# Altium footprint library CHIP.PcbLib: 12 footprints
Each footprint in its own frame and in the unit in brackets; x right, y up, seen from the top. Pads: shape width x height; smd on the part's side, far side on the other; paste and mask are expansions set on the pad; w line width, h text height; cw(c..) or ccw(c..) is an arc to the next point about the centre after c.
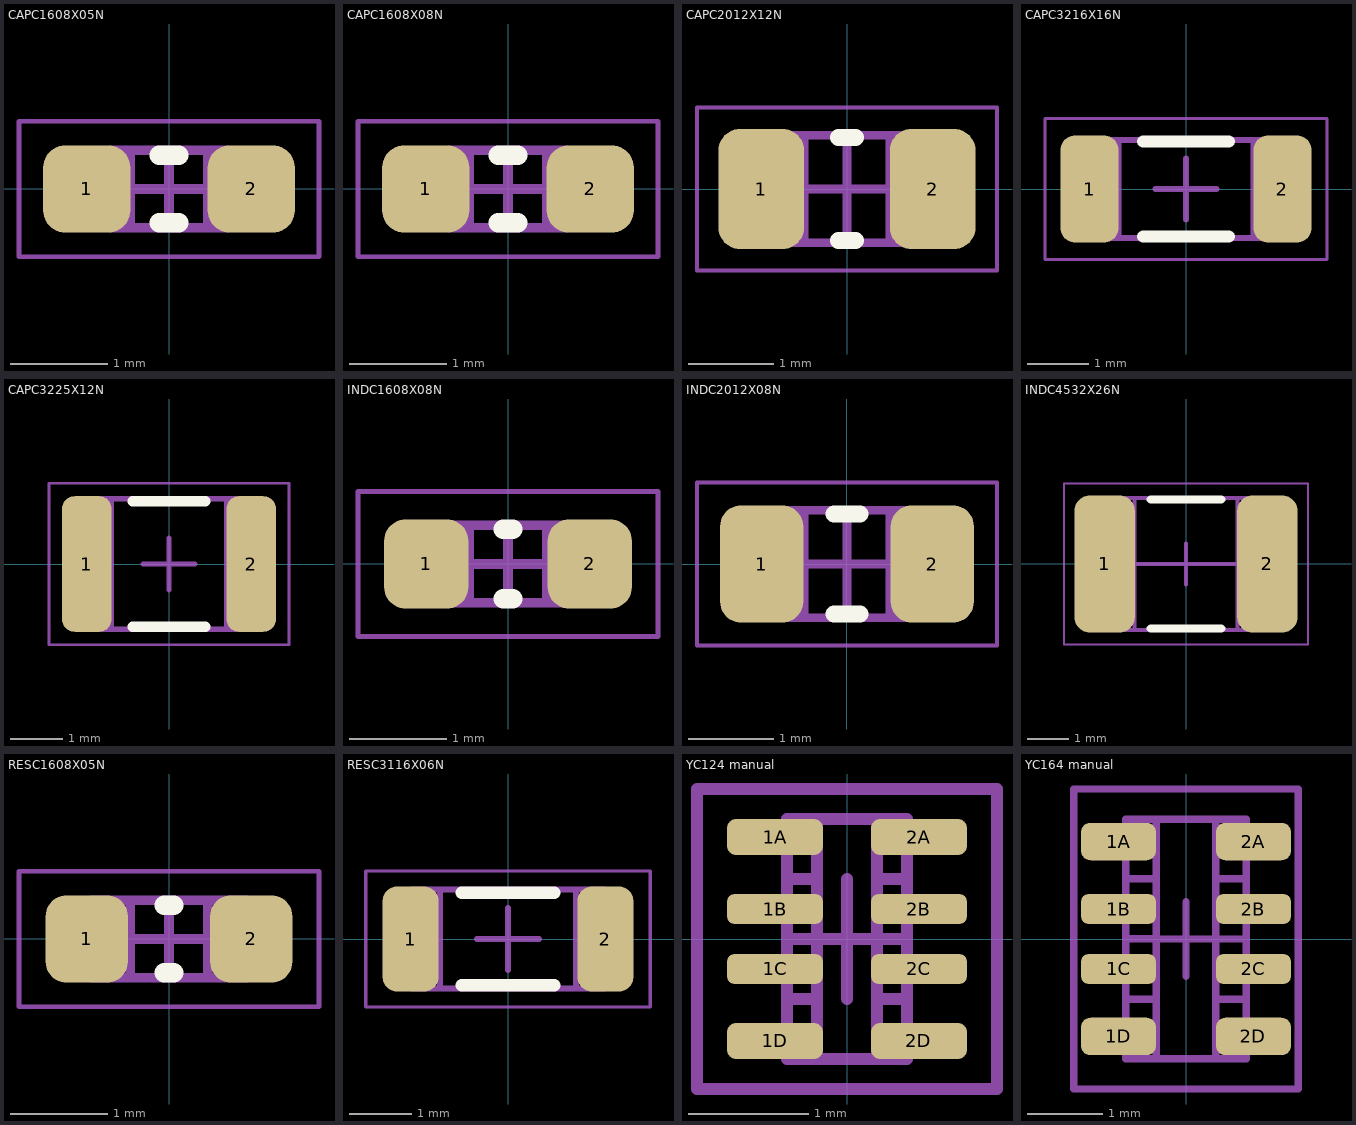
[diagram p0: the footprints below, top view; thin cyan lines are the x and y axes]

## CAPC1608X05N [mm] "Chip Capacitor, 2-Leads, Body 1.60x0.80mm, Thickness 0.8mm, IPC Medium Density"
height 0.8
pads (2):
  rrect50% 0.9x0.9 smd: 1(-0.85,0) 2(0.85,0)
Top Overlay:
  lines w0.2: -0.1,-0.35 0.1,-0.35 ; -0.1,0.35 0.1,0.35
Mechanical 4:
  text ".Designator" at -1.9,-0.2 h1
Mechanical 13:
  lines w0.1: -0.4,-0.4 -0.4,0.4 ; 0.4,-0.4 0.4,0.4 ; -0.8,-0.2 -0.8,0.2 -0.6,0.4 0.6,0.4 0.8,0.2 0.8,-0.2 0.6,-0.4 -0.6,-0.4 -0.8,-0.2
Mechanical 15:
  lines w0.05: -1.55,-0.7 -1.55,0.7 1.55,0.7 1.55,-0.7 -1.55,-0.7
  lines w0.1: -0.4,0 0.4,0 ; 0,-0.4 0,0.4
3D body: height 0.5, standoff 0, extent -0.4,-0.4 0.4,0.4
3D body: height 0.5, standoff 0, extent -0.8,-0.4 -0.4,0.4
3D body: height 0.5, standoff 0, extent 0.4,-0.4 0.8,0.4

## CAPC1608X08N [mm] "Chip Capacitor, 2-Leads, Body 1.60x0.80mm, Thickness 0.8mm, IPC Medium Density"
height 0.8
pads (2):
  rrect50% 0.9x0.9 smd: 1(-0.85,0) 2(0.85,0)
Top Overlay:
  lines w0.2: -0.1,-0.35 0.1,-0.35 ; -0.1,0.35 0.1,0.35
Mechanical 4:
  text ".Designator" at -2.2,-0.2 h1
Mechanical 13:
  lines w0.1: -0.4,-0.4 -0.4,0.4 ; 0.4,-0.4 0.4,0.4 ; -0.8,-0.2 -0.6,-0.4 0.6,-0.4 0.8,-0.2 0.8,0.2 0.6,0.4 -0.6,0.4 -0.8,0.2 -0.8,-0.2
Mechanical 15:
  lines w0.05: -1.55,-0.7 1.55,-0.7 1.55,0.7 -1.55,0.7 -1.55,-0.7
  lines w0.1: -0.4,0 0.4,0 ; 0,-0.4 0,0.4
3D body: height 0.8, standoff 0, extent 0.4,-0.4 0.8,0.4
3D body: height 0.8, standoff 0, extent -0.8,-0.4 -0.4,0.4
3D body: height 0.8, standoff 0, extent -0.4,-0.4 0.4,0.4

## CAPC2012X12N [mm] "Chip Capacitor, 2-Leads, Body 2.00x1.25mm, Thickness 1.25mm, IPC Medium Density"
height 1.25
pads (2):
  rrect50% 1x1.4 smd: 1(-1,0) 2(1,0)
Top Overlay:
  lines w0.2: -0.1,-0.6 0.1,-0.6 ; -0.1,0.6 0.1,0.6
Mechanical 4:
  text ".Designator" at -2.2,-0.2 h1
Mechanical 13:
  lines w0.1: -0.5,-0.625 -0.5,0.625 ; 0.5,-0.625 0.5,0.625 ; -1,-0.4 -0.775,-0.625 0.75,-0.625 1,-0.375 1,0.375 0.75,0.625 -0.75,0.625 -1,0.375 -1,-0.4
Mechanical 15:
  lines w0.05: -1.75,-0.95 -1.75,0.95 1.75,0.95 1.75,-0.95 -1.75,-0.95
  lines w0.1: -0.5,0 0.5,0 ; 0,-0.5 0,0.5
3D body: height 1.25, standoff 0, extent -0.5,-0.625 0.5,0.625
3D body: height 1.25, standoff 0, extent -1,-0.625 -0.5,0.625
3D body: height 1.25, standoff 0, extent 0.5,-0.625 1,0.625

## CAPC3216X16N [mm] "Chip Capacitor, 2-Leads, Body 3.20x1.60x1.6mm, IPC Medium Density"
height 1.6
pads (2):
  rrect50% 0.95x1.75 smd: 1(-1.575,0) 2(1.575,0)
Top Overlay:
  lines w0.2: -0.7,-0.775 0.7,-0.775 ; -0.7,0.775 0.7,0.775
Mechanical 4:
  text ".Designator" at -2.2,-0.2 h1
Mechanical 13:
  lines w0.1: -1.1,-0.8 -1.1,0.8 ; 1.1,-0.8 1.1,0.8 ; -1.6,-0.55 -1.35,-0.8 1.35,-0.8 1.6,-0.55 1.6,0.55 1.35,0.8 -1.35,0.8 -1.6,0.55 -1.6,-0.55
Mechanical 15:
  lines w0.05: -2.3,-1.15 2.3,-1.15 2.3,1.15 -2.3,1.15 -2.3,-1.15
  lines w0.1: -0.5,0 0.5,0 ; 0,-0.5 0,0.5
3D body: height 1.6, standoff 0, extent 1.1,-0.8 1.6,0.8
3D body: height 1.6, standoff 0, extent -1.6,-0.8 -1.1,0.8
3D body: height 1.6, standoff 0, extent -1.1,-0.8 1.1,0.8

## CAPC3225X12N [mm] "Chip Capacitor, 2-Leads, Body 3.20x2.50x1.25mm, IPC Medium Density"
height 1.25
pads (2):
  rrect50% 0.95x2.6 smd: 1(-1.575,0) 2(1.575,0)
Top Overlay:
  lines w0.2: -0.7,-1.2 0.7,-1.2 ; -0.7,1.2 0.7,1.2
Mechanical 4:
  text ".Designator" at -2.3,-0.2 h1
Mechanical 13:
  lines w0.1: -1.1,-1.25 -1.1,1.25 ; 1.1,-1.25 1.1,1.25 ; -1.6,-1 -1.35,-1.25 1.35,-1.25 1.6,-1 1.6,1 1.35,1.25 -1.35,1.25 -1.6,1 -1.6,-1
Mechanical 15:
  lines w0.05: -2.3,-1.55 2.3,-1.55 2.3,1.55 -2.3,1.55 -2.3,-1.55
  lines w0.1: -0.5,0 0.5,0 ; 0,-0.5 0,0.5
3D body: height 1.25, standoff 0, extent 1.1,-1.25 1.6,1.25
3D body: height 1.25, standoff 0, extent -1.6,-1.25 -1.1,1.25
3D body: height 1.25, standoff 0, extent -1.1,-1.25 1.1,1.25

## INDC1608X08N [mm] "Chip Inductor, 2-Leads, Body 1.60x0.80mm, Thickness 0.8mm, IPC Medium Density"
height 0.8
pads (2):
  rrect50% 0.87x0.92 smd: 1(-0.845,0) 2(0.845,0)
Top Overlay:
  lines w0.2: -0.05,-0.36 0.05,-0.36 ; -0.05,0.36 0.05,0.36
Mechanical 4:
  text ".Designator" at -2.1,-0.2 h1
Mechanical 13:
  lines w0.1: -0.4,-0.4 -0.4,0.4 ; -0.4,0 0.4,0 ; 0.4,-0.4 0.4,0.4 ; -0.8,-0.4 -0.8,0.4 0.8,0.4 0.8,-0.4 -0.8,-0.4
Mechanical 15:
  lines w0.05: -1.55,-0.75 -1.55,0.75 1.55,0.75 1.55,-0.75 -1.55,-0.75
  lines w0.1: -0.4,0 0.4,0 ; 0,-0.4 0,0.4
3D body: height 0.8, standoff 0, extent -0.4,-0.4 0.4,0.4
3D body: height 0.8, standoff 0, extent -0.8,-0.4 -0.4,0.4
3D body: height 0.8, standoff 0, extent 0.4,-0.4 0.8,0.4

## INDC2012X08N [mm] "Chip Inductor, 2-Leads, Body 2.00x1.25x0.85mm, IPC Medium Density"
height 0.85
pads (2):
  rrect50% 0.97x1.37 smd: 1(-0.995,0) 2(0.995,0)
Top Overlay:
  lines w0.2: -0.15,-0.585 0.15,-0.585 ; -0.15,0.585 0.15,0.585
Mechanical 4:
  text ".Designator" at -2.2,-0.1 h1
Mechanical 13:
  lines w0.1: -0.5,-0.625 -0.5,0.625 ; -0.5,0 0.5,0 ; 0.5,-0.625 0.5,0.625 ; -1,-0.625 1,-0.625 1,0.625 -1,0.625 -1,-0.625
Mechanical 15:
  lines w0.05: -1.75,-0.95 1.75,-0.95 1.75,0.95 -1.75,0.95 -1.75,-0.95
  lines w0.1: -0.5,0 0.5,0 ; 0,-0.5 0,0.5
3D body: height 0.85, standoff 0, extent 0.5,-0.625 1,0.625
3D body: height 0.85, standoff 0, extent -1,-0.625 -0.5,0.625
3D body: height 0.85, standoff 0, extent -0.5,-0.625 0.5,0.625

## INDC4532X26N [mm] "Chip Inductor, 2-Leads, Body 4.50x3.20mm, Thickness 26mm, IPC Medium Density"
height 2.6
pads (2):
  rrect50% 1.46x3.32 smd: 1(-1.97,0) 2(1.97,0)
Top Overlay:
  lines w0.2: -0.85,-1.56 0.85,-1.56 ; -0.85,1.56 0.85,1.56
Mechanical 4:
  text ".Designator" at -2.3,-0.2 h1
Mechanical 13:
  lines w0.1: -1.25,-1.6 -1.25,1.6 ; -1.25,0 1.25,0 ; 1.25,-1.6 1.25,1.6 ; -2.25,-1.6 2.25,-1.6 2.25,1.6 -2.25,1.6 -2.25,-1.6
Mechanical 15:
  lines w0.05: -2.95,-1.95 2.95,-1.95 2.95,1.95 -2.95,1.95 -2.95,-1.95
  lines w0.1: -0.5,0 0.5,0 ; 0,-0.5 0,0.5
3D body: height 2.6, standoff 0, extent 1.25,-1.6 2.25,1.6
3D body: height 2.6, standoff 0, extent -2.25,-1.6 -1.25,1.6
3D body: height 2.6, standoff 0, extent -1.25,-1.6 1.25,1.6

## RESC1608X05N [mm] "Chip Resistor, 2-Leads, Body 1.60x0.80mm, IPC Medium Density"
height 0.45
pads (2):
  rrect50% 0.85x0.9 smd: 1(-0.85,0) 2(0.85,0)
Top Overlay:
  lines w0.2: -0.05,-0.35 0.05,-0.35 ; -0.05,0.35 0.05,0.35
Mechanical 4:
  text ".Designator" at -2.2,-0.2 h1
Mechanical 13:
  lines w0.1: -0.4,-0.4 -0.4,0.4 ; 0.4,-0.4 0.4,0.4 ; -0.8,-0.4 -0.8,0.4 0.8,0.4 0.8,-0.4 -0.8,-0.4
Mechanical 15:
  lines w0.05: -1.55,-0.7 -1.55,0.7 1.55,0.7 1.55,-0.7 -1.55,-0.7
  lines w0.1: -0.4,0 0.4,0 ; 0,-0.4 0,0.4
3D body: height 0.45, standoff 0, extent -0.4,-0.4 0.4,0.4
3D body: height 0.45, standoff 0, extent -0.8,-0.4 -0.4,0.4
3D body: height 0.45, standoff 0, extent 0.4,-0.4 0.8,0.4

## RESC3116X06N [mm] "Chip Resistor, 2-Leads, Body 3.10x1.60x0.55mm, IPC Medium Density"
height 0.55
pads (2):
  rrect50% 0.9x1.7 smd: 1(-1.575,0) 2(1.575,0)
Top Overlay:
  lines w0.2: -0.75,-0.75 0.75,-0.75 ; -0.75,0.75 0.75,0.75
Mechanical 4:
  text ".Designator" at -1.6,0 h1
Mechanical 13:
  lines w0.1: -1.1,-0.8 -1.1,0.8 ; 1.1,-0.8 1.1,0.8 ; -1.55,-0.8 -1.55,0.8 1.55,0.8 1.55,-0.8 -1.55,-0.8
Mechanical 15:
  lines w0.05: -2.3,-1.1 -2.3,1.1 2.3,1.1 2.3,-1.1 -2.3,-1.1
  lines w0.1: -0.5,0 0.5,0 ; 0,-0.5 0,0.5
3D body: height 0.55, standoff 0, extent -1.1,-0.8 1.1,0.8
3D body: height 0.55, standoff 0, extent -1.55,-0.8 -1.1,0.8
3D body: height 0.55, standoff 0, extent 1.1,-0.8 1.55,0.8

## YC124 manual [mm]
pads (8):
  rrect50% 0.8x0.3 smd: 1A(-0.6,0.85) 1D(-0.6,-0.85) 2A(0.6,0.85) 2D(0.6,-0.85)
  rrect50% 0.8x0.25 smd: 1B(-0.6,0.25) 1C(-0.6,-0.25) 2B(0.6,0.25) 2C(0.6,-0.25)
Mechanical 4:
  text ".Designator" at -3.5,-2.25 h1
Mechanical 13:
  lines w0.1: -0.5,-0.5 -0.25,-0.5 ; -0.5,0 -0.25,0 ; -0.5,0.5 -0.25,0.5 ; -0.25,-1 -0.25,1 ; 0.25,-1 0.25,1 ; 0.25,-0.5 0.5,-0.5 ; 0.25,0 0.5,0 ; 0.25,0.5 0.5,0.5 ; -0.5,-1 0.5,-1 0.5,1 -0.5,1 -0.5,-1
Mechanical 15:
  lines w0.1: -0.5,0 0.5,0 ; 0,-0.5 0,0.5 ; -1.25,-1.25 -1.25,1.25 1.25,1.25 1.25,-1.25 -1.25,-1.25
3D body: height 0.45, standoff 0, extent -0.5,-1 0.5,1

## YC164 manual [mm]
pads (8):
  rrect50% 1x0.5 smd: 1A(-0.9,1.3) 1D(-0.9,-1.3) 2A(0.9,1.3) 2D(0.9,-1.3)
  rrect50% 1x0.4 smd: 1B(-0.9,0.4) 1C(-0.9,-0.4) 2B(0.9,0.4) 2C(0.9,-0.4)
Mechanical 13:
  lines w0.1: -0.8,-0.8 -0.4,-0.8 ; -0.8,0 -0.4,0 ; -0.8,0.8 -0.4,0.8 ; -0.4,-1.6 -0.4,1.6 ; 0.4,-1.6 0.4,1.6 ; 0.4,-0.8 0.8,-0.8 ; 0.4,0 0.8,0 ; 0.4,0.8 0.8,0.8 ; -0.8,-1.6 0.8,-1.6 0.8,1.6 -0.8,1.6 -0.8,-1.6
Mechanical 15:
  lines w0.1: -0.5,0 0.5,0 ; 0,-0.5 0,0.5 ; -1.5,-2 1.5,-2 1.5,2 -1.5,2 -1.5,-2
3D body: height 0.55, standoff 0, extent -0.8,-1.6 0.8,1.6